# Altium integrated library Resistor - Current Sense.IntLib: 810 symbols (part 6 of 12)
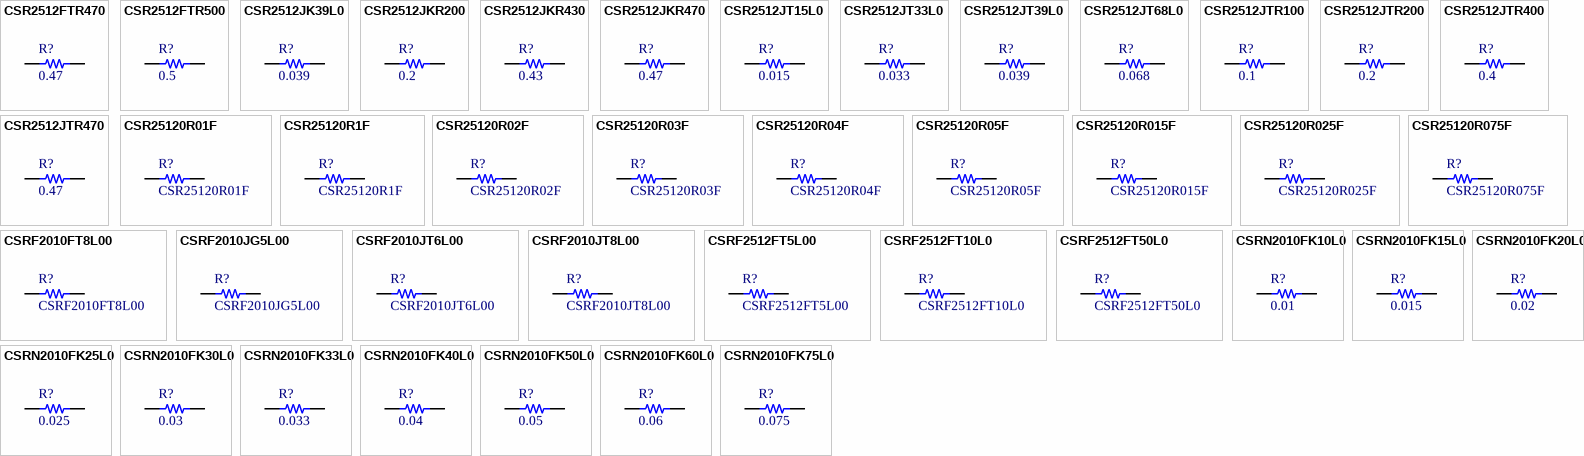
[diagram p25: symbols CSR2512FTR470 to CSRN2010FK75L0]

## CSRN2010FK60L0
designator R?, comment 0.06
RES SMD 0.06 OHM 1% 1W 2010; Part Number: CSRN2010FK60L0; Manufacturer: Stackpole Electronics Inc.; TemperatureRange: -55C ~ 155C; TemperatureCoefficient: 250ppm/C; Value: 0.06; PartId: 10111; Supplier 1: Digi-Key; Supplier Part Number 1: CSRN2010FK60L0TR-ND; ComponentLink1Description: Datasheet; ComponentLink1URL: http://www.seielect.com/catalog/SEI-CSR_CSRN.pdf; ComponentLink2Description: Digi-Key Listing; ComponentLink2URL: https://www.digikey.com/product-detail/en/stackpole-electronics-inc/CSRN2010FK60L0/CSRN2010FK60L0TR-ND/1788102; Tolerance: 1%; PowerRating: 1W; Price: 0.1388; Device Package: 2010 (5025 Metric)
footprint STACKPOLE CSRN2010
pins: 1, 2

## CSRN2010FK75L0
designator R?, comment 0.075
RES SMD 0.075 OHM 1% 1W 2010; Part Number: CSRN2010FK75L0; Manufacturer: Stackpole Electronics Inc.; TemperatureRange: -55C ~ 155C; TemperatureCoefficient: 250ppm/C; Value: 0.075; PartId: 10108; Supplier 1: Digi-Key; Supplier Part Number 1: CSRN2010FK75L0TR-ND; ComponentLink1Description: Datasheet; ComponentLink1URL: http://www.seielect.com/catalog/SEI-CSR_CSRN.pdf; ComponentLink2Description: Digi-Key Listing; ComponentLink2URL: https://www.digikey.com/product-detail/en/stackpole-electronics-inc/CSRN2010FK75L0/CSRN2010FK75L0TR-ND/1646102; Tolerance: 1%; PowerRating: 1W; Price: 0.1388; Device Package: 2010 (5025 Metric)
footprint STACKPOLE CSRN2010
pins: 1, 2

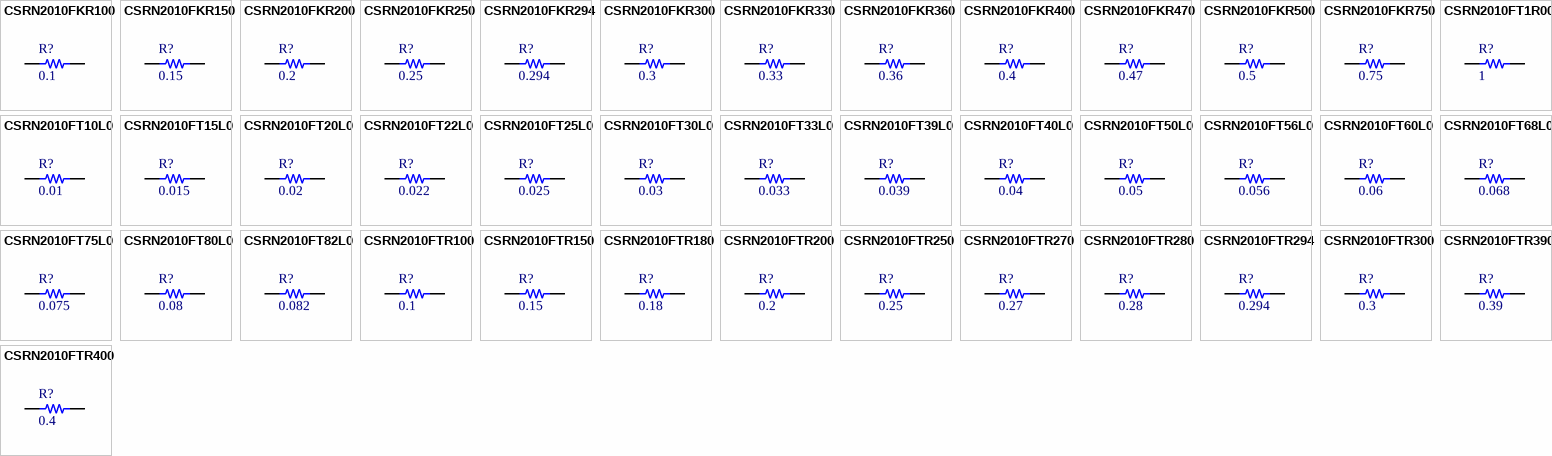
[diagram p9: symbols CSRN2010FKR100 to CSRN2010FTR400]

## CSRN2010FKR100
designator R?, comment 0.1
RES SMD 0.1 OHM 1% 1W 2010; Part Number: CSRN2010FKR100; Manufacturer: Stackpole Electronics Inc.; TemperatureRange: -55C ~ 155C; TemperatureCoefficient: 250ppm/C; Value: 0.1; PartId: 10096; Supplier 1: Digi-Key; Supplier Part Number 1: CSRN2010FKR100TR-ND; ComponentLink1Description: Datasheet; ComponentLink1URL: http://www.seielect.com/catalog/SEI-CSR_CSRN.pdf; ComponentLink2Description: Digi-Key Listing; ComponentLink2URL: https://www.digikey.com/product-detail/en/stackpole-electronics-inc/CSRN2010FKR100/CSRN2010FKR100TR-ND/1646103; Tolerance: 1%; PowerRating: 1W; Price: 0.112; Device Package: 2010 (5025 Metric)
footprint STACKPOLE CSRN2010
pins: 1, 2

## CSRN2010FKR150
designator R?, comment 0.15
RES SMD 0.15 OHM 1% 1W 2010; Part Number: CSRN2010FKR150; Manufacturer: Stackpole Electronics Inc.; TemperatureRange: -55C ~ 155C; TemperatureCoefficient: 250ppm/C; Value: 0.15; PartId: 10098; Supplier 1: Digi-Key; Supplier Part Number 1: CSRN2010FKR150TR-ND; ComponentLink1Description: Datasheet; ComponentLink1URL: http://www.seielect.com/catalog/SEI-CSR_CSRN.pdf; ComponentLink2Description: Digi-Key Listing; ComponentLink2URL: https://www.digikey.com/product-detail/en/stackpole-electronics-inc/CSRN2010FKR150/CSRN2010FKR150TR-ND/1742677; Tolerance: 1%; PowerRating: 1W; Price: 0.112; Device Package: 2010 (5025 Metric)
footprint STACKPOLE CSRN2010
pins: 1, 2

## CSRN2010FKR200
designator R?, comment 0.2
RES SMD 0.2 OHM 1% 1W 2010; Part Number: CSRN2010FKR200; Manufacturer: Stackpole Electronics Inc.; TemperatureRange: -55C ~ 155C; TemperatureCoefficient: 250ppm/C; Value: 0.2; PartId: 10097; Supplier 1: Digi-Key; Supplier Part Number 1: CSRN2010FKR200TR-ND; ComponentLink1Description: Datasheet; ComponentLink1URL: http://www.seielect.com/catalog/SEI-CSR_CSRN.pdf; ComponentLink2Description: Digi-Key Listing; ComponentLink2URL: https://www.digikey.com/product-detail/en/stackpole-electronics-inc/CSRN2010FKR200/CSRN2010FKR200TR-ND/1742682; Tolerance: 1%; PowerRating: 1W; Price: 0.112; Device Package: 2010 (5025 Metric)
footprint STACKPOLE CSRN2010
pins: 1, 2

## CSRN2010FKR250
designator R?, comment 0.25
RES SMD 0.25 OHM 1% 1W 2010; Part Number: CSRN2010FKR250; Manufacturer: Stackpole Electronics Inc.; TemperatureRange: -55C ~ 155C; TemperatureCoefficient: 250ppm/C; Value: 0.25; PartId: 10110; Supplier 1: Digi-Key; Supplier Part Number 1: CSRN2010FKR250TR-ND; ComponentLink1Description: Datasheet; ComponentLink1URL: http://www.seielect.com/catalog/SEI-CSR_CSRN.pdf; ComponentLink2Description: Digi-Key Listing; ComponentLink2URL: https://www.digikey.com/product-detail/en/stackpole-electronics-inc/CSRN2010FKR250/CSRN2010FKR250TR-ND/1788103; Tolerance: 1%; PowerRating: 1W; Price: 0.112; Device Package: 2010 (5025 Metric)
footprint STACKPOLE CSRN2010
pins: 1, 2

## CSRN2010FKR294
designator R?, comment 0.294
RES SMD 0.294 OHM 1% 1W 2010; Part Number: CSRN2010FKR294; Manufacturer: Stackpole Electronics Inc.; TemperatureRange: -55C ~ 155C; TemperatureCoefficient: 250ppm/C; Value: 0.294; PartId: 10138; Supplier 1: Digi-Key; Supplier Part Number 1: CSRN2010FKR294-ND; ComponentLink1Description: Datasheet; ComponentLink1URL: http://www.seielect.com/catalog/SEI-CSR_CSRN.pdf; ComponentLink2Description: Digi-Key Listing; ComponentLink2URL: https://www.digikey.com/product-detail/en/stackpole-electronics-inc/CSRN2010FKR294/CSRN2010FKR294-ND/1742688; Tolerance: 1%; PowerRating: 1W; Price: 0.112; Device Package: 2010 (5025 Metric)
footprint STACKPOLE CSRN2010
pins: 1, 2

## CSRN2010FKR300
designator R?, comment 0.3
RES SMD 0.3 OHM 1% 1W 2010; Part Number: CSRN2010FKR300; Manufacturer: Stackpole Electronics Inc.; TemperatureRange: -55C ~ 155C; TemperatureCoefficient: 250ppm/C; Value: 0.3; PartId: 10095; Supplier 1: Digi-Key; Supplier Part Number 1: CSRN2010FKR300TR-ND; ComponentLink1Description: Datasheet; ComponentLink1URL: http://www.seielect.com/catalog/SEI-CSR_CSRN.pdf; ComponentLink2Description: Digi-Key Listing; ComponentLink2URL: https://www.digikey.com/product-detail/en/stackpole-electronics-inc/CSRN2010FKR300/CSRN2010FKR300TR-ND/1742690; Tolerance: 1%; PowerRating: 1W; Price: 0.112; Device Package: 2010 (5025 Metric)
footprint STACKPOLE CSRN2010
pins: 1, 2

## CSRN2010FKR330
designator R?, comment 0.33
RES SMD 0.33 OHM 1% 1W 2010; Part Number: CSRN2010FKR330; Manufacturer: Stackpole Electronics Inc.; TemperatureRange: -55C ~ 155C; TemperatureCoefficient: 250ppm/C; Value: 0.33; PartId: 10139; Supplier 1: Digi-Key; Supplier Part Number 1: CSRN2010FKR330-ND; ComponentLink1Description: Datasheet; ComponentLink1URL: http://www.seielect.com/catalog/SEI-CSR_CSRN.pdf; ComponentLink2Description: Digi-Key Listing; ComponentLink2URL: https://www.digikey.com/product-detail/en/stackpole-electronics-inc/CSRN2010FKR330/CSRN2010FKR330-ND/1742694; Tolerance: 1%; PowerRating: 1W; Price: 0.112; Device Package: 2010 (5025 Metric)
footprint STACKPOLE CSRN2010
pins: 1, 2

## CSRN2010FKR360
designator R?, comment 0.36
RES SMD 0.36 OHM 1% 1W 2010; Part Number: CSRN2010FKR360; Manufacturer: Stackpole Electronics Inc.; TemperatureRange: -55C ~ 155C; TemperatureCoefficient: 250ppm/C; Value: 0.36; PartId: 10140; Supplier 1: Digi-Key; Supplier Part Number 1: CSRN2010FKR360-ND; ComponentLink1Description: Datasheet; ComponentLink1URL: http://www.seielect.com/catalog/SEI-CSR_CSRN.pdf; ComponentLink2Description: Digi-Key Listing; ComponentLink2URL: https://www.digikey.com/product-detail/en/stackpole-electronics-inc/CSRN2010FKR360/CSRN2010FKR360-ND/1742695; Tolerance: 1%; PowerRating: 1W; Price: 0.112; Device Package: 2010 (5025 Metric)
footprint STACKPOLE CSRN2010
pins: 1, 2

## CSRN2010FKR400
designator R?, comment 0.4
RES SMD 0.4 OHM 1% 1W 2010; Part Number: CSRN2010FKR400; Manufacturer: Stackpole Electronics Inc.; TemperatureRange: -55C ~ 155C; TemperatureCoefficient: 250ppm/C; Value: 0.4; PartId: 10103; Supplier 1: Digi-Key; Supplier Part Number 1: CSRN2010FKR400TR-ND; ComponentLink1Description: Datasheet; ComponentLink1URL: http://www.seielect.com/catalog/SEI-CSR_CSRN.pdf; ComponentLink2Description: Digi-Key Listing; ComponentLink2URL: https://www.digikey.com/product-detail/en/stackpole-electronics-inc/CSRN2010FKR400/CSRN2010FKR400TR-ND/1742697; Tolerance: 1%; PowerRating: 1W; Price: 0.112; Device Package: 2010 (5025 Metric)
footprint STACKPOLE CSRN2010
pins: 1, 2

## CSRN2010FKR470
designator R?, comment 0.47
RES SMD 0.47 OHM 1% 1W 2010; Part Number: CSRN2010FKR470; Manufacturer: Stackpole Electronics Inc.; TemperatureRange: -55C ~ 155C; TemperatureCoefficient: 250ppm/C; Value: 0.47; PartId: 10141; Supplier 1: Digi-Key; Supplier Part Number 1: CSRN2010FKR470-ND; ComponentLink1Description: Datasheet; ComponentLink1URL: http://www.seielect.com/catalog/SEI-CSR_CSRN.pdf; ComponentLink2Description: Digi-Key Listing; ComponentLink2URL: https://www.digikey.com/product-detail/en/stackpole-electronics-inc/CSRN2010FKR470/CSRN2010FKR470-ND/1742700; Tolerance: 1%; PowerRating: 1W; Price: 0.112; Device Package: 2010 (5025 Metric)
footprint STACKPOLE CSRN2010
pins: 1, 2

## CSRN2010FKR500
designator R?, comment 0.5
RES SMD 0.5 OHM 1% 1W 2010; Part Number: CSRN2010FKR500; Manufacturer: Stackpole Electronics Inc.; TemperatureRange: -55C ~ 155C; TemperatureCoefficient: 250ppm/C; Value: 0.5; PartId: 10094; Supplier 1: Digi-Key; Supplier Part Number 1: CSRN2010FKR500TR-ND; ComponentLink1Description: Datasheet; ComponentLink1URL: http://www.seielect.com/catalog/SEI-CSR_CSRN.pdf; ComponentLink2Description: Digi-Key Listing; ComponentLink2URL: https://www.digikey.com/product-detail/en/stackpole-electronics-inc/CSRN2010FKR500/CSRN2010FKR500TR-ND/1742702; Tolerance: 1%; PowerRating: 1W; Price: 0.104; Device Package: 2010 (5025 Metric)
footprint STACKPOLE CSRN2010
pins: 1, 2

## CSRN2010FKR750
designator R?, comment 0.75
RES SMD 0.75 OHM 1% 1W 2010; Part Number: CSRN2010FKR750; Manufacturer: Stackpole Electronics Inc.; TemperatureRange: -55C ~ 155C; TemperatureCoefficient: 250ppm/C; Value: 0.75; PartId: 10102; Supplier 1: Digi-Key; Supplier Part Number 1: CSRN2010FKR750TR-ND; ComponentLink1Description: Datasheet; ComponentLink1URL: http://www.seielect.com/catalog/SEI-CSR_CSRN.pdf; ComponentLink2Description: Digi-Key Listing; ComponentLink2URL: https://www.digikey.com/product-detail/en/stackpole-electronics-inc/CSRN2010FKR750/CSRN2010FKR750TR-ND/1788104; Tolerance: 1%; PowerRating: 1W; Price: 0.104; Device Package: 2010 (5025 Metric)
footprint STACKPOLE CSRN2010
pins: 1, 2

## CSRN2010FT1R00
designator R?, comment 1
RES SMD 1 OHM 1% 1W 2010; Part Number: CSRN2010FT1R00; Manufacturer: Stackpole Electronics Inc.; TemperatureRange: -55C ~ 155C; TemperatureCoefficient: 250ppm/C; Value: 1; PartId: 10126; Supplier 1: Digi-Key; Supplier Part Number 1: CSRN2010FT1R00-ND; ComponentLink1Description: Datasheet; ComponentLink1URL: http://www.seielect.com/catalog/SEI-CSR_CSRN.pdf; ComponentLink2Description: Digi-Key Listing; ComponentLink2URL: https://www.digikey.com/product-detail/en/stackpole-electronics-inc/CSRN2010FT1R00/CSRN2010FT1R00-ND/1742710; Tolerance: 1%; PowerRating: 1W; Price: 0.0975; Device Package: 2010 (5025 Metric)
footprint STACKPOLE CSRN2010
pins: 1, 2

## CSRN2010FT10L0
designator R?, comment 0.01
RES SMD 0.01 OHM 1% 1W 2010; Part Number: CSRN2010FT10L0; Manufacturer: Stackpole Electronics Inc.; TemperatureRange: -55C ~ 155C; TemperatureCoefficient: 250ppm/C; Value: 0.01; PartId: 10109; Supplier 1: Digi-Key; Supplier Part Number 1: CSRN2010FT10L0TR-ND; ComponentLink1Description: Datasheet; ComponentLink1URL: http://www.seielect.com/catalog/SEI-CSR_CSRN.pdf; ComponentLink2Description: Digi-Key Listing; ComponentLink2URL: https://www.digikey.com/product-detail/en/stackpole-electronics-inc/CSRN2010FT10L0/CSRN2010FT10L0TR-ND/1742654; Tolerance: 1%; PowerRating: 1W; Price: 0.1608; Device Package: 2010 (5025 Metric)
footprint STACKPOLE CSRN2010
pins: 1, 2

## CSRN2010FT15L0
designator R?, comment 0.015
RES SMD 0.015 OHM 1% 1W 2010; Part Number: CSRN2010FT15L0; Manufacturer: Stackpole Electronics Inc.; TemperatureRange: -55C ~ 155C; TemperatureCoefficient: 250ppm/C; Value: 0.015; PartId: 10160; Supplier 1: Digi-Key; Supplier Part Number 1: CSRN2010FT15L0-ND; ComponentLink1Description: Datasheet; ComponentLink1URL: http://www.seielect.com/catalog/SEI-CSR_CSRN.pdf; ComponentLink2Description: Digi-Key Listing; ComponentLink2URL: https://www.digikey.com/product-detail/en/stackpole-electronics-inc/CSRN2010FT15L0/CSRN2010FT15L0-ND/1742656; Tolerance: 1%; PowerRating: 1W; Price: 0.1608; Device Package: 2010 (5025 Metric)
footprint STACKPOLE CSRN2010
pins: 1, 2

## CSRN2010FT20L0
designator R?, comment 0.02
RES SMD 0.02 OHM 1% 1W 2010; Part Number: CSRN2010FT20L0; Manufacturer: Stackpole Electronics Inc.; TemperatureRange: -55C ~ 155C; TemperatureCoefficient: 250ppm/C; Value: 0.02; PartId: 10161; Supplier 1: Digi-Key; Supplier Part Number 1: CSRN2010FT20L0-ND; ComponentLink1Description: Datasheet; ComponentLink1URL: http://www.seielect.com/catalog/SEI-CSR_CSRN.pdf; ComponentLink2Description: Digi-Key Listing; ComponentLink2URL: https://www.digikey.com/product-detail/en/stackpole-electronics-inc/CSRN2010FT20L0/CSRN2010FT20L0-ND/1742657; Tolerance: 1%; PowerRating: 1W; Price: 0.1608; Device Package: 2010 (5025 Metric)
footprint STACKPOLE CSRN2010
pins: 1, 2

## CSRN2010FT22L0
designator R?, comment 0.022
RES SMD 0.022 OHM 1% 1W 2010; Part Number: CSRN2010FT22L0; Manufacturer: Stackpole Electronics Inc.; TemperatureRange: -55C ~ 155C; TemperatureCoefficient: 250ppm/C; Value: 0.022; PartId: 10151; Supplier 1: Digi-Key; Supplier Part Number 1: CSRN2010FT22L0-ND; ComponentLink1Description: Datasheet; ComponentLink1URL: http://www.seielect.com/catalog/SEI-CSR_CSRN.pdf; ComponentLink2Description: Digi-Key Listing; ComponentLink2URL: https://www.digikey.com/product-detail/en/stackpole-electronics-inc/CSRN2010FT22L0/CSRN2010FT22L0-ND/1742658; Tolerance: 1%; PowerRating: 1W; Price: 0.1474; Device Package: 2010 (5025 Metric)
footprint STACKPOLE CSRN2010
pins: 1, 2

## CSRN2010FT25L0
designator R?, comment 0.025
RES SMD 0.025 OHM 1% 1W 2010; Part Number: CSRN2010FT25L0; Manufacturer: Stackpole Electronics Inc.; TemperatureRange: -55C ~ 155C; TemperatureCoefficient: 250ppm/C; Value: 0.025; PartId: 10152; Supplier 1: Digi-Key; Supplier Part Number 1: CSRN2010FT25L0-ND; ComponentLink1Description: Datasheet; ComponentLink1URL: http://www.seielect.com/catalog/SEI-CSR_CSRN.pdf; ComponentLink2Description: Digi-Key Listing; ComponentLink2URL: https://www.digikey.com/product-detail/en/stackpole-electronics-inc/CSRN2010FT25L0/CSRN2010FT25L0-ND/1742659; Tolerance: 1%; PowerRating: 1W; Price: 0.1474; Device Package: 2010 (5025 Metric)
footprint STACKPOLE CSRN2010
pins: 1, 2

## CSRN2010FT30L0
designator R?, comment 0.03
RES SMD 0.03 OHM 1% 1W 2010; Part Number: CSRN2010FT30L0; Manufacturer: Stackpole Electronics Inc.; TemperatureRange: -55C ~ 155C; TemperatureCoefficient: 250ppm/C; Value: 0.03; PartId: 10153; Supplier 1: Digi-Key; Supplier Part Number 1: CSRN2010FT30L0-ND; ComponentLink1Description: Datasheet; ComponentLink1URL: http://www.seielect.com/catalog/SEI-CSR_CSRN.pdf; ComponentLink2Description: Digi-Key Listing; ComponentLink2URL: https://www.digikey.com/product-detail/en/stackpole-electronics-inc/CSRN2010FT30L0/CSRN2010FT30L0-ND/1742661; Tolerance: 1%; PowerRating: 1W; Price: 0.1474; Device Package: 2010 (5025 Metric)
footprint STACKPOLE CSRN2010
pins: 1, 2

## CSRN2010FT33L0
designator R?, comment 0.033
RES SMD 0.033 OHM 1% 1W 2010; Part Number: CSRN2010FT33L0; Manufacturer: Stackpole Electronics Inc.; TemperatureRange: -55C ~ 155C; TemperatureCoefficient: 250ppm/C; Value: 0.033; PartId: 10157; Supplier 1: Digi-Key; Supplier Part Number 1: CSRN2010FT33L0TR-ND; ComponentLink1Description: Datasheet; ComponentLink1URL: http://www.seielect.com/catalog/SEI-CSR_CSRN.pdf; ComponentLink2Description: Digi-Key Listing; ComponentLink2URL: https://www.digikey.com/product-detail/en/stackpole-electronics-inc/CSRN2010FT33L0/CSRN2010FT33L0TR-ND/1742663; Tolerance: 1%; PowerRating: 1W; Price: 0.1474; Device Package: 2010 (5025 Metric)
footprint STACKPOLE CSRN2010
pins: 1, 2

## CSRN2010FT39L0
designator R?, comment 0.039
RES SMD 0.039 OHM 1% 1W 2010; Part Number: CSRN2010FT39L0; Manufacturer: Stackpole Electronics Inc.; TemperatureRange: -55C ~ 155C; TemperatureCoefficient: 250ppm/C; Value: 0.039; PartId: 10154; Supplier 1: Digi-Key; Supplier Part Number 1: CSRN2010FT39L0-ND; ComponentLink1Description: Datasheet; ComponentLink1URL: http://www.seielect.com/catalog/SEI-CSR_CSRN.pdf; ComponentLink2Description: Digi-Key Listing; ComponentLink2URL: https://www.digikey.com/product-detail/en/stackpole-electronics-inc/CSRN2010FT39L0/CSRN2010FT39L0-ND/1742665; Tolerance: 1%; PowerRating: 1W; Price: 0.1474; Device Package: 2010 (5025 Metric)
footprint STACKPOLE CSRN2010
pins: 1, 2

## CSRN2010FT40L0
designator R?, comment 0.04
RES SMD 0.04 OHM 1% 1W 2010; Part Number: CSRN2010FT40L0; Manufacturer: Stackpole Electronics Inc.; TemperatureRange: -55C ~ 155C; TemperatureCoefficient: 250ppm/C; Value: 0.04; PartId: 10155; Supplier 1: Digi-Key; Supplier Part Number 1: CSRN2010FT40L0-ND; ComponentLink1Description: Datasheet; ComponentLink1URL: http://www.seielect.com/catalog/SEI-CSR_CSRN.pdf; ComponentLink2Description: Digi-Key Listing; ComponentLink2URL: https://www.digikey.com/product-detail/en/stackpole-electronics-inc/CSRN2010FT40L0/CSRN2010FT40L0-ND/1742666; Tolerance: 1%; PowerRating: 1W; Price: 0.1474; Device Package: 2010 (5025 Metric)
footprint STACKPOLE CSRN2010
pins: 1, 2

## CSRN2010FT50L0
designator R?, comment 0.05
RES SMD 0.05 OHM 1% 1W 2010; Part Number: CSRN2010FT50L0; Manufacturer: Stackpole Electronics Inc.; TemperatureRange: -55C ~ 155C; TemperatureCoefficient: 250ppm/C; Value: 0.05; PartId: 10156; Supplier 1: Digi-Key; Supplier Part Number 1: CSRN2010FT50L0-ND; ComponentLink1Description: Datasheet; ComponentLink1URL: http://www.seielect.com/catalog/SEI-CSR_CSRN.pdf; ComponentLink2Description: Digi-Key Listing; ComponentLink2URL: https://www.digikey.com/product-detail/en/stackpole-electronics-inc/CSRN2010FT50L0/CSRN2010FT50L0-ND/1742667; Tolerance: 1%; PowerRating: 1W; Price: 0.1474; Device Package: 2010 (5025 Metric)
footprint STACKPOLE CSRN2010
pins: 1, 2

## CSRN2010FT56L0
designator R?, comment 0.056
RES SMD 0.056 OHM 1% 1W 2010; Part Number: CSRN2010FT56L0; Manufacturer: Stackpole Electronics Inc.; TemperatureRange: -55C ~ 155C; TemperatureCoefficient: 250ppm/C; Value: 0.056; PartId: 10144; Supplier 1: Digi-Key; Supplier Part Number 1: CSRN2010FT56L0-ND; ComponentLink1Description: Datasheet; ComponentLink1URL: http://www.seielect.com/catalog/SEI-CSR_CSRN.pdf; ComponentLink2Description: Digi-Key Listing; ComponentLink2URL: https://www.digikey.com/product-detail/en/stackpole-electronics-inc/CSRN2010FT56L0/CSRN2010FT56L0-ND/1742669; Tolerance: 1%; PowerRating: 1W; Price: 0.134; Device Package: 2010 (5025 Metric)
footprint STACKPOLE CSRN2010
pins: 1, 2

## CSRN2010FT60L0
designator R?, comment 0.06
RES SMD 0.06 OHM 1% 1W 2010; Part Number: CSRN2010FT60L0; Manufacturer: Stackpole Electronics Inc.; TemperatureRange: -55C ~ 155C; TemperatureCoefficient: 250ppm/C; Value: 0.06; PartId: 10145; Supplier 1: Digi-Key; Supplier Part Number 1: CSRN2010FT60L0-ND; ComponentLink1Description: Datasheet; ComponentLink1URL: http://www.seielect.com/catalog/SEI-CSR_CSRN.pdf; ComponentLink2Description: Digi-Key Listing; ComponentLink2URL: https://www.digikey.com/product-detail/en/stackpole-electronics-inc/CSRN2010FT60L0/CSRN2010FT60L0-ND/1742670; Tolerance: 1%; PowerRating: 1W; Price: 0.134; Device Package: 2010 (5025 Metric)
footprint STACKPOLE CSRN2010
pins: 1, 2

## CSRN2010FT68L0
designator R?, comment 0.068
RES SMD 0.068 OHM 1% 1W 2010; Part Number: CSRN2010FT68L0; Manufacturer: Stackpole Electronics Inc.; TemperatureRange: -55C ~ 155C; TemperatureCoefficient: 250ppm/C; Value: 0.068; PartId: 10146; Supplier 1: Digi-Key; Supplier Part Number 1: CSRN2010FT68L0-ND; ComponentLink1Description: Datasheet; ComponentLink1URL: http://www.seielect.com/catalog/SEI-CSR_CSRN.pdf; ComponentLink2Description: Digi-Key Listing; ComponentLink2URL: https://www.digikey.com/product-detail/en/stackpole-electronics-inc/CSRN2010FT68L0/CSRN2010FT68L0-ND/1742671; Tolerance: 1%; PowerRating: 1W; Price: 0.134; Device Package: 2010 (5025 Metric)
footprint STACKPOLE CSRN2010
pins: 1, 2

## CSRN2010FT75L0
designator R?, comment 0.075
RES SMD 0.075 OHM 1% 1W 2010; Part Number: CSRN2010FT75L0; Manufacturer: Stackpole Electronics Inc.; TemperatureRange: -55C ~ 155C; TemperatureCoefficient: 250ppm/C; Value: 0.075; PartId: 10147; Supplier 1: Digi-Key; Supplier Part Number 1: CSRN2010FT75L0-ND; ComponentLink1Description: Datasheet; ComponentLink1URL: http://www.seielect.com/catalog/SEI-CSR_CSRN.pdf; ComponentLink2Description: Digi-Key Listing; ComponentLink2URL: https://www.digikey.com/product-detail/en/stackpole-electronics-inc/CSRN2010FT75L0/CSRN2010FT75L0-ND/1742672; Tolerance: 1%; PowerRating: 1W; Price: 0.134; Device Package: 2010 (5025 Metric)
footprint STACKPOLE CSRN2010
pins: 1, 2

## CSRN2010FT80L0
designator R?, comment 0.08
RES SMD 0.08 OHM 1% 1W 2010; Part Number: CSRN2010FT80L0; Manufacturer: Stackpole Electronics Inc.; TemperatureRange: -55C ~ 155C; TemperatureCoefficient: 250ppm/C; Value: 0.08; PartId: 10148; Supplier 1: Digi-Key; Supplier Part Number 1: CSRN2010FT80L0-ND; ComponentLink1Description: Datasheet; ComponentLink1URL: http://www.seielect.com/catalog/SEI-CSR_CSRN.pdf; ComponentLink2Description: Digi-Key Listing; ComponentLink2URL: https://www.digikey.com/product-detail/en/stackpole-electronics-inc/CSRN2010FT80L0/CSRN2010FT80L0-ND/1742673; Tolerance: 1%; PowerRating: 1W; Price: 0.134; Device Package: 2010 (5025 Metric)
footprint STACKPOLE CSRN2010
pins: 1, 2

## CSRN2010FT82L0
designator R?, comment 0.082
RES SMD 0.082 OHM 1% 1W 2010; Part Number: CSRN2010FT82L0; Manufacturer: Stackpole Electronics Inc.; TemperatureRange: -55C ~ 155C; TemperatureCoefficient: 250ppm/C; Value: 0.082; PartId: 10149; Supplier 1: Digi-Key; Supplier Part Number 1: CSRN2010FT82L0-ND; ComponentLink1Description: Datasheet; ComponentLink1URL: http://www.seielect.com/catalog/SEI-CSR_CSRN.pdf; ComponentLink2Description: Digi-Key Listing; ComponentLink2URL: https://www.digikey.com/product-detail/en/stackpole-electronics-inc/CSRN2010FT82L0/CSRN2010FT82L0-ND/1742674; Tolerance: 1%; PowerRating: 1W; Price: 0.134; Device Package: 2010 (5025 Metric)
footprint STACKPOLE CSRN2010
pins: 1, 2

## CSRN2010FTR100
designator R?, comment 0.1
RES SMD 0.1 OHM 1% 1W 2010; Part Number: CSRN2010FTR100; Manufacturer: Stackpole Electronics Inc.; TemperatureRange: -55C ~ 155C; TemperatureCoefficient: 250ppm/C; Value: 0.1; PartId: 10150; Supplier 1: Digi-Key; Supplier Part Number 1: CSRN2010FTR100-ND; ComponentLink1Description: Datasheet; ComponentLink1URL: http://www.seielect.com/catalog/SEI-CSR_CSRN.pdf; ComponentLink2Description: Digi-Key Listing; ComponentLink2URL: https://www.digikey.com/product-detail/en/stackpole-electronics-inc/CSRN2010FTR100/CSRN2010FTR100-ND/1742675; Tolerance: 1%; PowerRating: 1W; Price: 0.134; Device Package: 2010 (5025 Metric)
footprint STACKPOLE CSRN2010
pins: 1, 2

## CSRN2010FTR150
designator R?, comment 0.15
RES SMD 0.15 OHM 1% 1W 2010; Part Number: CSRN2010FTR150; Manufacturer: Stackpole Electronics Inc.; TemperatureRange: -55C ~ 155C; TemperatureCoefficient: 250ppm/C; Value: 0.15; PartId: 10128; Supplier 1: Digi-Key; Supplier Part Number 1: CSRN2010FTR150-ND; ComponentLink1Description: Datasheet; ComponentLink1URL: http://www.seielect.com/catalog/SEI-CSR_CSRN.pdf; ComponentLink2Description: Digi-Key Listing; ComponentLink2URL: https://www.digikey.com/product-detail/en/stackpole-electronics-inc/CSRN2010FTR150/CSRN2010FTR150-ND/1742678; Tolerance: 1%; PowerRating: 1W; Price: 0.108; Device Package: 2010 (5025 Metric)
footprint STACKPOLE CSRN2010
pins: 1, 2

## CSRN2010FTR180
designator R?, comment 0.18
RES SMD 0.18 OHM 1% 1W 2010; Part Number: CSRN2010FTR180; Manufacturer: Stackpole Electronics Inc.; TemperatureRange: -55C ~ 155C; TemperatureCoefficient: 250ppm/C; Value: 0.18; PartId: 10129; Supplier 1: Digi-Key; Supplier Part Number 1: CSRN2010FTR180-ND; ComponentLink1Description: Datasheet; ComponentLink1URL: http://www.seielect.com/catalog/SEI-CSR_CSRN.pdf; ComponentLink2Description: Digi-Key Listing; ComponentLink2URL: https://www.digikey.com/product-detail/en/stackpole-electronics-inc/CSRN2010FTR180/CSRN2010FTR180-ND/1742681; Tolerance: 1%; PowerRating: 1W; Price: 0.108; Device Package: 2010 (5025 Metric)
footprint STACKPOLE CSRN2010
pins: 1, 2

## CSRN2010FTR200
designator R?, comment 0.2
RES SMD 0.2 OHM 1% 1W 2010; Part Number: CSRN2010FTR200; Manufacturer: Stackpole Electronics Inc.; TemperatureRange: -55C ~ 155C; TemperatureCoefficient: 250ppm/C; Value: 0.2; PartId: 10130; Supplier 1: Digi-Key; Supplier Part Number 1: CSRN2010FTR200-ND; ComponentLink1Description: Datasheet; ComponentLink1URL: http://www.seielect.com/catalog/SEI-CSR_CSRN.pdf; ComponentLink2Description: Digi-Key Listing; ComponentLink2URL: https://www.digikey.com/product-detail/en/stackpole-electronics-inc/CSRN2010FTR200/CSRN2010FTR200-ND/1742683; Tolerance: 1%; PowerRating: 1W; Price: 0.108; Device Package: 2010 (5025 Metric)
footprint STACKPOLE CSRN2010
pins: 1, 2

## CSRN2010FTR250
designator R?, comment 0.25
RES SMD 0.25 OHM 1% 1W 2010; Part Number: CSRN2010FTR250; Manufacturer: Stackpole Electronics Inc.; TemperatureRange: -55C ~ 155C; TemperatureCoefficient: 250ppm/C; Value: 0.25; PartId: 10131; Supplier 1: Digi-Key; Supplier Part Number 1: CSRN2010FTR250-ND; ComponentLink1Description: Datasheet; ComponentLink1URL: http://www.seielect.com/catalog/SEI-CSR_CSRN.pdf; ComponentLink2Description: Digi-Key Listing; ComponentLink2URL: https://www.digikey.com/product-detail/en/stackpole-electronics-inc/CSRN2010FTR250/CSRN2010FTR250-ND/1742685; Tolerance: 1%; PowerRating: 1W; Price: 0.108; Device Package: 2010 (5025 Metric)
footprint STACKPOLE CSRN2010
pins: 1, 2

## CSRN2010FTR270
designator R?, comment 0.27
RES SMD 0.27 OHM 1% 1W 2010; Part Number: CSRN2010FTR270; Manufacturer: Stackpole Electronics Inc.; TemperatureRange: -55C ~ 155C; TemperatureCoefficient: 250ppm/C; Value: 0.27; PartId: 10132; Supplier 1: Digi-Key; Supplier Part Number 1: CSRN2010FTR270-ND; ComponentLink1Description: Datasheet; ComponentLink1URL: http://www.seielect.com/catalog/SEI-CSR_CSRN.pdf; ComponentLink2Description: Digi-Key Listing; ComponentLink2URL: https://www.digikey.com/product-detail/en/stackpole-electronics-inc/CSRN2010FTR270/CSRN2010FTR270-ND/1742686; Tolerance: 1%; PowerRating: 1W; Price: 0.108; Device Package: 2010 (5025 Metric)
footprint STACKPOLE CSRN2010
pins: 1, 2

## CSRN2010FTR280
designator R?, comment 0.28
RES SMD 0.28 OHM 1% 1W 2010; Part Number: CSRN2010FTR280; Manufacturer: Stackpole Electronics Inc.; TemperatureRange: -55C ~ 155C; TemperatureCoefficient: 250ppm/C; Value: 0.28; PartId: 10133; Supplier 1: Digi-Key; Supplier Part Number 1: CSRN2010FTR280-ND; ComponentLink1Description: Datasheet; ComponentLink1URL: http://www.seielect.com/catalog/SEI-CSR_CSRN.pdf; ComponentLink2Description: Digi-Key Listing; ComponentLink2URL: https://www.digikey.com/product-detail/en/stackpole-electronics-inc/CSRN2010FTR280/CSRN2010FTR280-ND/1742687; Tolerance: 1%; PowerRating: 1W; Price: 0.108; Device Package: 2010 (5025 Metric)
footprint STACKPOLE CSRN2010
pins: 1, 2

## CSRN2010FTR294
designator R?, comment 0.294
RES SMD 0.294 OHM 1% 1W 2010; Part Number: CSRN2010FTR294; Manufacturer: Stackpole Electronics Inc.; TemperatureRange: -55C ~ 155C; TemperatureCoefficient: 250ppm/C; Value: 0.294; PartId: 10134; Supplier 1: Digi-Key; Supplier Part Number 1: CSRN2010FTR294-ND; ComponentLink1Description: Datasheet; ComponentLink1URL: http://www.seielect.com/catalog/SEI-CSR_CSRN.pdf; ComponentLink2Description: Digi-Key Listing; ComponentLink2URL: https://www.digikey.com/product-detail/en/stackpole-electronics-inc/CSRN2010FTR294/CSRN2010FTR294-ND/1742689; Tolerance: 1%; PowerRating: 1W; Price: 0.108; Device Package: 2010 (5025 Metric)
footprint STACKPOLE CSRN2010
pins: 1, 2

## CSRN2010FTR300
designator R?, comment 0.3
RES SMD 0.3 OHM 1% 1W 2010; Part Number: CSRN2010FTR300; Manufacturer: Stackpole Electronics Inc.; TemperatureRange: -55C ~ 155C; TemperatureCoefficient: 250ppm/C; Value: 0.3; PartId: 10135; Supplier 1: Digi-Key; Supplier Part Number 1: CSRN2010FTR300-ND; ComponentLink1Description: Datasheet; ComponentLink1URL: http://www.seielect.com/catalog/SEI-CSR_CSRN.pdf; ComponentLink2Description: Digi-Key Listing; ComponentLink2URL: https://www.digikey.com/product-detail/en/stackpole-electronics-inc/CSRN2010FTR300/CSRN2010FTR300-ND/1742691; Tolerance: 1%; PowerRating: 1W; Price: 0.108; Device Package: 2010 (5025 Metric)
footprint STACKPOLE CSRN2010
pins: 1, 2

## CSRN2010FTR390
designator R?, comment 0.39
RES SMD 0.39 OHM 1% 1W 2010; Part Number: CSRN2010FTR390; Manufacturer: Stackpole Electronics Inc.; TemperatureRange: -55C ~ 155C; TemperatureCoefficient: 250ppm/C; Value: 0.39; PartId: 10136; Supplier 1: Digi-Key; Supplier Part Number 1: CSRN2010FTR390-ND; ComponentLink1Description: Datasheet; ComponentLink1URL: http://www.seielect.com/catalog/SEI-CSR_CSRN.pdf; ComponentLink2Description: Digi-Key Listing; ComponentLink2URL: https://www.digikey.com/product-detail/en/stackpole-electronics-inc/CSRN2010FTR390/CSRN2010FTR390-ND/1742696; Tolerance: 1%; PowerRating: 1W; Price: 0.108; Device Package: 2010 (5025 Metric)
footprint STACKPOLE CSRN2010
pins: 1, 2

## CSRN2010FTR400
designator R?, comment 0.4
RES SMD 0.4 OHM 1% 1W 2010; Part Number: CSRN2010FTR400; Manufacturer: Stackpole Electronics Inc.; TemperatureRange: -55C ~ 155C; TemperatureCoefficient: 250ppm/C; Value: 0.4; PartId: 10137; Supplier 1: Digi-Key; Supplier Part Number 1: CSRN2010FTR400-ND; ComponentLink1Description: Datasheet; ComponentLink1URL: http://www.seielect.com/catalog/SEI-CSR_CSRN.pdf; ComponentLink2Description: Digi-Key Listing; ComponentLink2URL: https://www.digikey.com/product-detail/en/stackpole-electronics-inc/CSRN2010FTR400/CSRN2010FTR400-ND/1742698; Tolerance: 1%; PowerRating: 1W; Price: 0.108; Device Package: 2010 (5025 Metric)
footprint STACKPOLE CSRN2010
pins: 1, 2

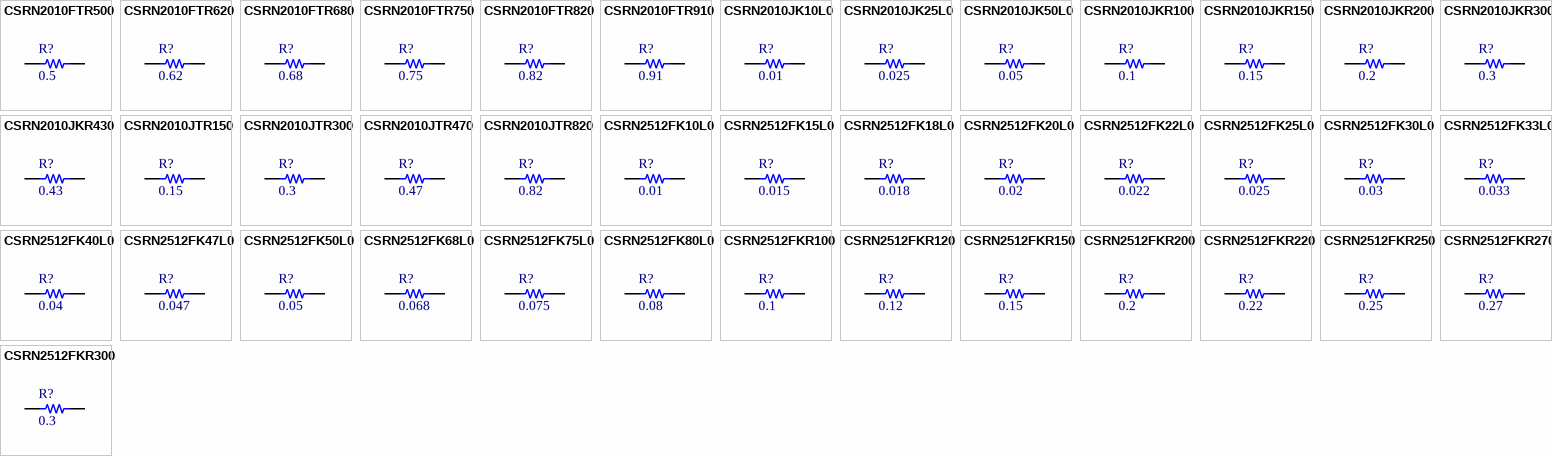
[diagram p10: symbols CSRN2010FTR500 to CSRN2512FKR300]

## CSRN2010FTR500
designator R?, comment 0.5
RES SMD 0.5 OHM 1% 1W 2010; Part Number: CSRN2010FTR500; Manufacturer: Stackpole Electronics Inc.; TemperatureRange: -55C ~ 155C; TemperatureCoefficient: 250ppm/C; Value: 0.5; PartId: 10120; Supplier 1: Digi-Key; Supplier Part Number 1: CSRN2010FTR500-ND; ComponentLink1Description: Datasheet; ComponentLink1URL: http://www.seielect.com/catalog/SEI-CSR_CSRN.pdf; ComponentLink2Description: Digi-Key Listing; ComponentLink2URL: https://www.digikey.com/product-detail/en/stackpole-electronics-inc/CSRN2010FTR500/CSRN2010FTR500-ND/1742703; Tolerance: 1%; PowerRating: 1W; Price: 0.0975; Device Package: 2010 (5025 Metric)
footprint STACKPOLE CSRN2010
pins: 1, 2

## CSRN2010FTR620
designator R?, comment 0.62
RES SMD 0.62 OHM 1% 1W 2010; Part Number: CSRN2010FTR620; Manufacturer: Stackpole Electronics Inc.; TemperatureRange: -55C ~ 155C; TemperatureCoefficient: 250ppm/C; Value: 0.62; PartId: 10121; Supplier 1: Digi-Key; Supplier Part Number 1: CSRN2010FTR620-ND; ComponentLink1Description: Datasheet; ComponentLink1URL: http://www.seielect.com/catalog/SEI-CSR_CSRN.pdf; ComponentLink2Description: Digi-Key Listing; ComponentLink2URL: https://www.digikey.com/product-detail/en/stackpole-electronics-inc/CSRN2010FTR620/CSRN2010FTR620-ND/1742704; Tolerance: 1%; PowerRating: 1W; Price: 0.0975; Device Package: 2010 (5025 Metric)
footprint STACKPOLE CSRN2010
pins: 1, 2

## CSRN2010FTR680
designator R?, comment 0.68
RES SMD 0.68 OHM 1% 1W 2010; Part Number: CSRN2010FTR680; Manufacturer: Stackpole Electronics Inc.; TemperatureRange: -55C ~ 155C; TemperatureCoefficient: 250ppm/C; Value: 0.68; PartId: 10122; Supplier 1: Digi-Key; Supplier Part Number 1: CSRN2010FTR680-ND; ComponentLink1Description: Datasheet; ComponentLink1URL: http://www.seielect.com/catalog/SEI-CSR_CSRN.pdf; ComponentLink2Description: Digi-Key Listing; ComponentLink2URL: https://www.digikey.com/product-detail/en/stackpole-electronics-inc/CSRN2010FTR680/CSRN2010FTR680-ND/1742705; Tolerance: 1%; PowerRating: 1W; Price: 0.0975; Device Package: 2010 (5025 Metric)
footprint STACKPOLE CSRN2010
pins: 1, 2

## CSRN2010FTR750
designator R?, comment 0.75
RES SMD 0.75 OHM 1% 1W 2010; Part Number: CSRN2010FTR750; Manufacturer: Stackpole Electronics Inc.; TemperatureRange: -55C ~ 155C; TemperatureCoefficient: 250ppm/C; Value: 0.75; PartId: 10123; Supplier 1: Digi-Key; Supplier Part Number 1: CSRN2010FTR750-ND; ComponentLink1Description: Datasheet; ComponentLink1URL: http://www.seielect.com/catalog/SEI-CSR_CSRN.pdf; ComponentLink2Description: Digi-Key Listing; ComponentLink2URL: https://www.digikey.com/product-detail/en/stackpole-electronics-inc/CSRN2010FTR750/CSRN2010FTR750-ND/1742706; Tolerance: 1%; PowerRating: 1W; Price: 0.0975; Device Package: 2010 (5025 Metric)
footprint STACKPOLE CSRN2010
pins: 1, 2

## CSRN2010FTR820
designator R?, comment 0.82
RES SMD 0.82 OHM 1% 1W 2010; Part Number: CSRN2010FTR820; Manufacturer: Stackpole Electronics Inc.; TemperatureRange: -55C ~ 155C; TemperatureCoefficient: 250ppm/C; Value: 0.82; PartId: 10124; Supplier 1: Digi-Key; Supplier Part Number 1: CSRN2010FTR820-ND; ComponentLink1Description: Datasheet; ComponentLink1URL: http://www.seielect.com/catalog/SEI-CSR_CSRN.pdf; ComponentLink2Description: Digi-Key Listing; ComponentLink2URL: https://www.digikey.com/product-detail/en/stackpole-electronics-inc/CSRN2010FTR820/CSRN2010FTR820-ND/1742707; Tolerance: 1%; PowerRating: 1W; Price: 0.0975; Device Package: 2010 (5025 Metric)
footprint STACKPOLE CSRN2010
pins: 1, 2

## CSRN2010FTR910
designator R?, comment 0.91
RES SMD 0.91 OHM 1% 1W 2010; Part Number: CSRN2010FTR910; Manufacturer: Stackpole Electronics Inc.; TemperatureRange: -55C ~ 155C; TemperatureCoefficient: 250ppm/C; Value: 0.91; PartId: 10125; Supplier 1: Digi-Key; Supplier Part Number 1: CSRN2010FTR910-ND; ComponentLink1Description: Datasheet; ComponentLink1URL: http://www.seielect.com/catalog/SEI-CSR_CSRN.pdf; ComponentLink2Description: Digi-Key Listing; ComponentLink2URL: https://www.digikey.com/product-detail/en/stackpole-electronics-inc/CSRN2010FTR910/CSRN2010FTR910-ND/1742709; Tolerance: 1%; PowerRating: 1W; Price: 0.0975; Device Package: 2010 (5025 Metric)
footprint STACKPOLE CSRN2010
pins: 1, 2

## CSRN2010JK10L0
designator R?, comment 0.01
RES SMD 0.01 OHM 5% 1W 2010; Part Number: CSRN2010JK10L0; Manufacturer: Stackpole Electronics Inc.; TemperatureRange: -55C ~ 155C; TemperatureCoefficient: 250ppm/C; Value: 0.01; PartId: 10158; Supplier 1: Digi-Key; Supplier Part Number 1: CSRN2010JK10L0-ND; ComponentLink1Description: Datasheet; ComponentLink1URL: http://www.seielect.com/catalog/SEI-CSR_CSRN.pdf; ComponentLink2Description: Digi-Key Listing; ComponentLink2URL: https://www.digikey.com/product-detail/en/stackpole-electronics-inc/CSRN2010JK10L0/CSRN2010JK10L0-ND/1742655; Tolerance: 5%; PowerRating: 1W; Price: 0.1526; Device Package: 2010 (5025 Metric)
footprint STACKPOLE CSRN2010
pins: 1, 2

## CSRN2010JK25L0
designator R?, comment 0.025
RES SMD 0.025 OHM 5% 1W 2010; Part Number: CSRN2010JK25L0; Manufacturer: Stackpole Electronics Inc.; TemperatureRange: -55C ~ 155C; TemperatureCoefficient: 250ppm/C; Value: 0.025; PartId: 10142; Supplier 1: Digi-Key; Supplier Part Number 1: CSRN2010JK25L0-ND; ComponentLink1Description: Datasheet; ComponentLink1URL: http://www.seielect.com/catalog/SEI-CSR_CSRN.pdf; ComponentLink2Description: Digi-Key Listing; ComponentLink2URL: https://www.digikey.com/product-detail/en/stackpole-electronics-inc/CSRN2010JK25L0/CSRN2010JK25L0-ND/1742660; Tolerance: 5%; PowerRating: 1W; Price: 0.126; Device Package: 2010 (5025 Metric)
footprint STACKPOLE CSRN2010
pins: 1, 2

## CSRN2010JK50L0
designator R?, comment 0.05
RES SMD 0.05 OHM 5% 1W 2010; Part Number: CSRN2010JK50L0; Manufacturer: Stackpole Electronics Inc.; TemperatureRange: -55C ~ 155C; TemperatureCoefficient: 250ppm/C; Value: 0.05; PartId: 10143; Supplier 1: Digi-Key; Supplier Part Number 1: CSRN2010JK50L0-ND; ComponentLink1Description: Datasheet; ComponentLink1URL: http://www.seielect.com/catalog/SEI-CSR_CSRN.pdf; ComponentLink2Description: Digi-Key Listing; ComponentLink2URL: https://www.digikey.com/product-detail/en/stackpole-electronics-inc/CSRN2010JK50L0/CSRN2010JK50L0-ND/1742668; Tolerance: 5%; PowerRating: 1W; Price: 0.126; Device Package: 2010 (5025 Metric)
footprint STACKPOLE CSRN2010
pins: 1, 2

## CSRN2010JKR100
designator R?, comment 0.1
RES SMD 0.1 OHM 5% 1W 2010; Part Number: CSRN2010JKR100; Manufacturer: Stackpole Electronics Inc.; TemperatureRange: -55C ~ 155C; TemperatureCoefficient: 250ppm/C; Value: 0.1; PartId: 10127; Supplier 1: Digi-Key; Supplier Part Number 1: CSRN2010JKR100-ND; ComponentLink1Description: Datasheet; ComponentLink1URL: http://www.seielect.com/catalog/SEI-CSR_CSRN.pdf; ComponentLink2Description: Digi-Key Listing; ComponentLink2URL: https://www.digikey.com/product-detail/en/stackpole-electronics-inc/CSRN2010JKR100/CSRN2010JKR100-ND/1742676; Tolerance: 5%; PowerRating: 1W; Price: 0.098; Device Package: 2010 (5025 Metric)
footprint STACKPOLE CSRN2010
pins: 1, 2

## CSRN2010JKR150
designator R?, comment 0.15
RES SMD 0.15 OHM 5% 1W 2010; Part Number: CSRN2010JKR150; Manufacturer: Stackpole Electronics Inc.; TemperatureRange: -55C ~ 155C; TemperatureCoefficient: 250ppm/C; Value: 0.15; PartId: 10116; Supplier 1: Digi-Key; Supplier Part Number 1: CSRN2010JKR150-ND; ComponentLink1Description: Datasheet; ComponentLink1URL: http://www.seielect.com/catalog/SEI-CSR_CSRN.pdf; ComponentLink2Description: Digi-Key Listing; ComponentLink2URL: https://www.digikey.com/product-detail/en/stackpole-electronics-inc/CSRN2010JKR150/CSRN2010JKR150-ND/1742679; Tolerance: 5%; PowerRating: 1W; Price: 0.08; Device Package: 2010 (5025 Metric)
footprint STACKPOLE CSRN2010
pins: 1, 2

## CSRN2010JKR200
designator R?, comment 0.2
RES SMD 0.2 OHM 5% 1W 2010; Part Number: CSRN2010JKR200; Manufacturer: Stackpole Electronics Inc.; TemperatureRange: -55C ~ 155C; TemperatureCoefficient: 250ppm/C; Value: 0.2; PartId: 10117; Supplier 1: Digi-Key; Supplier Part Number 1: CSRN2010JKR200-ND; ComponentLink1Description: Datasheet; ComponentLink1URL: http://www.seielect.com/catalog/SEI-CSR_CSRN.pdf; ComponentLink2Description: Digi-Key Listing; ComponentLink2URL: https://www.digikey.com/product-detail/en/stackpole-electronics-inc/CSRN2010JKR200/CSRN2010JKR200-ND/1742684; Tolerance: 5%; PowerRating: 1W; Price: 0.08; Device Package: 2010 (5025 Metric)
footprint STACKPOLE CSRN2010
pins: 1, 2

## CSRN2010JKR300
designator R?, comment 0.3
RES SMD 0.3 OHM 5% 1W 2010; Part Number: CSRN2010JKR300; Manufacturer: Stackpole Electronics Inc.; TemperatureRange: -55C ~ 155C; TemperatureCoefficient: 250ppm/C; Value: 0.3; PartId: 10118; Supplier 1: Digi-Key; Supplier Part Number 1: CSRN2010JKR300-ND; ComponentLink1Description: Datasheet; ComponentLink1URL: http://www.seielect.com/catalog/SEI-CSR_CSRN.pdf; ComponentLink2Description: Digi-Key Listing; ComponentLink2URL: https://www.digikey.com/product-detail/en/stackpole-electronics-inc/CSRN2010JKR300/CSRN2010JKR300-ND/1742692; Tolerance: 5%; PowerRating: 1W; Price: 0.08; Device Package: 2010 (5025 Metric)
footprint STACKPOLE CSRN2010
pins: 1, 2

## CSRN2010JKR430
designator R?, comment 0.43
RES SMD 0.43 OHM 5% 1W 2010; Part Number: CSRN2010JKR430; Manufacturer: Stackpole Electronics Inc.; TemperatureRange: -55C ~ 155C; TemperatureCoefficient: 250ppm/C; Value: 0.43; PartId: 10119; Supplier 1: Digi-Key; Supplier Part Number 1: CSRN2010JKR430-ND; ComponentLink1Description: Datasheet; ComponentLink1URL: http://www.seielect.com/catalog/SEI-CSR_CSRN.pdf; ComponentLink2Description: Digi-Key Listing; ComponentLink2URL: https://www.digikey.com/product-detail/en/stackpole-electronics-inc/CSRN2010JKR430/CSRN2010JKR430-ND/1742699; Tolerance: 5%; PowerRating: 1W; Price: 0.08; Device Package: 2010 (5025 Metric)
footprint STACKPOLE CSRN2010
pins: 1, 2

## CSRN2010JTR150
designator R?, comment 0.15
RES SMD 0.15 OHM 5% 1W 2010; Part Number: CSRN2010JTR150; Manufacturer: Stackpole Electronics Inc.; TemperatureRange: -55C ~ 155C; TemperatureCoefficient: 250ppm/C; Value: 0.15; PartId: 10113; Supplier 1: Digi-Key; Supplier Part Number 1: CSRN2010JTR150-ND; ComponentLink1Description: Datasheet; ComponentLink1URL: http://www.seielect.com/catalog/SEI-CSR_CSRN.pdf; ComponentLink2Description: Digi-Key Listing; ComponentLink2URL: https://www.digikey.com/product-detail/en/stackpole-electronics-inc/CSRN2010JTR150/CSRN2010JTR150-ND/1742680; Tolerance: 5%; PowerRating: 1W; Price: 0.075; Device Package: 2010 (5025 Metric)
footprint STACKPOLE CSRN2010
pins: 1, 2

## CSRN2010JTR300
designator R?, comment 0.3
RES SMD 0.3 OHM 5% 1W 2010; Part Number: CSRN2010JTR300; Manufacturer: Stackpole Electronics Inc.; TemperatureRange: -55C ~ 155C; TemperatureCoefficient: 250ppm/C; Value: 0.3; PartId: 10114; Supplier 1: Digi-Key; Supplier Part Number 1: CSRN2010JTR300-ND; ComponentLink1Description: Datasheet; ComponentLink1URL: http://www.seielect.com/catalog/SEI-CSR_CSRN.pdf; ComponentLink2Description: Digi-Key Listing; ComponentLink2URL: https://www.digikey.com/product-detail/en/stackpole-electronics-inc/CSRN2010JTR300/CSRN2010JTR300-ND/1742693; Tolerance: 5%; PowerRating: 1W; Price: 0.075; Device Package: 2010 (5025 Metric)
footprint STACKPOLE CSRN2010
pins: 1, 2

## CSRN2010JTR470
designator R?, comment 0.47
RES SMD 0.47 OHM 5% 1W 2010; Part Number: CSRN2010JTR470; Manufacturer: Stackpole Electronics Inc.; TemperatureRange: -55C ~ 155C; TemperatureCoefficient: 250ppm/C; Value: 0.47; PartId: 10115; Supplier 1: Digi-Key; Supplier Part Number 1: CSRN2010JTR470-ND; ComponentLink1Description: Datasheet; ComponentLink1URL: http://www.seielect.com/catalog/SEI-CSR_CSRN.pdf; ComponentLink2Description: Digi-Key Listing; ComponentLink2URL: https://www.digikey.com/product-detail/en/stackpole-electronics-inc/CSRN2010JTR470/CSRN2010JTR470-ND/1742701; Tolerance: 5%; PowerRating: 1W; Price: 0.075; Device Package: 2010 (5025 Metric)
footprint STACKPOLE CSRN2010
pins: 1, 2

## CSRN2010JTR820
designator R?, comment 0.82
RES SMD 0.82 OHM 5% 1W 2010; Part Number: CSRN2010JTR820; Manufacturer: Stackpole Electronics Inc.; TemperatureRange: -55C ~ 155C; TemperatureCoefficient: 250ppm/C; Value: 0.82; PartId: 10112; Supplier 1: Digi-Key; Supplier Part Number 1: CSRN2010JTR820-ND; ComponentLink1Description: Datasheet; ComponentLink1URL: http://www.seielect.com/catalog/SEI-CSR_CSRN.pdf; ComponentLink2Description: Digi-Key Listing; ComponentLink2URL: https://www.digikey.com/product-detail/en/stackpole-electronics-inc/CSRN2010JTR820/CSRN2010JTR820-ND/1742708; Tolerance: 5%; PowerRating: 1W; Price: 0.06; Device Package: 2010 (5025 Metric)
footprint STACKPOLE CSRN2010
pins: 1, 2

## CSRN2512FK10L0
designator R?, comment 0.01
RES SMD 0.01 OHM 1% 2W 2512; Part Number: CSRN2512FK10L0; Manufacturer: Stackpole Electronics Inc.; TemperatureRange: -55C ~ 155C; TemperatureCoefficient: 200ppm/C; Value: 0.01; PartId: 10178; Supplier 1: Digi-Key; Supplier Part Number 1: CSRN2512FK10L0TR-ND; ComponentLink1Description: Datasheet; ComponentLink1URL: http://www.seielect.com/catalog/SEI-CSR_CSRN.pdf; ComponentLink2Description: Digi-Key Listing; ComponentLink2URL: https://www.digikey.com/product-detail/en/stackpole-electronics-inc/CSRN2512FK10L0/CSRN2512FK10L0TR-ND/1646104; Tolerance: 1%; PowerRating: 2W; Price: 0.1925; Device Package: 2512 (6432 Metric)
footprint STACKPOLE CSRN2512
pins: 1, 2

## CSRN2512FK15L0
designator R?, comment 0.015
RES SMD 0.015 OHM 1% 2W 2512; Part Number: CSRN2512FK15L0; Manufacturer: Stackpole Electronics Inc.; TemperatureRange: -55C ~ 155C; TemperatureCoefficient: 200ppm/C; Value: 0.015; PartId: 10181; Supplier 1: Digi-Key; Supplier Part Number 1: CSRN2512FK15L0TR-ND; ComponentLink1Description: Datasheet; ComponentLink1URL: http://www.seielect.com/catalog/SEI-CSR_CSRN.pdf; ComponentLink2Description: Digi-Key Listing; ComponentLink2URL: https://www.digikey.com/product-detail/en/stackpole-electronics-inc/CSRN2512FK15L0/CSRN2512FK15L0TR-ND/1742714; Tolerance: 1%; PowerRating: 2W; Price: 0.1925; Device Package: 2512 (6432 Metric)
footprint STACKPOLE CSRN2512
pins: 1, 2

## CSRN2512FK18L0
designator R?, comment 0.018
RES SMD 0.018 OHM 1% 2W 2512; Part Number: CSRN2512FK18L0; Manufacturer: Stackpole Electronics Inc.; TemperatureRange: -55C ~ 155C; TemperatureCoefficient: 200ppm/C; Value: 0.018; PartId: 10237; Supplier 1: Digi-Key; Supplier Part Number 1: CSRN2512FK18L0-ND; ComponentLink1Description: Datasheet; ComponentLink1URL: http://www.seielect.com/catalog/SEI-CSR_CSRN.pdf; ComponentLink2Description: Digi-Key Listing; ComponentLink2URL: https://www.digikey.com/product-detail/en/stackpole-electronics-inc/CSRN2512FK18L0/CSRN2512FK18L0-ND/1742716; Tolerance: 1%; PowerRating: 2W; Price: 0.1925; Device Package: 2512 (6432 Metric)
footprint STACKPOLE CSRN2512
pins: 1, 2

## CSRN2512FK20L0
designator R?, comment 0.02
RES SMD 0.02 OHM 1% 2W 2512; Part Number: CSRN2512FK20L0; Manufacturer: Stackpole Electronics Inc.; TemperatureRange: -55C ~ 155C; TemperatureCoefficient: 200ppm/C; Value: 0.02; PartId: 10176; Supplier 1: Digi-Key; Supplier Part Number 1: CSRN2512FK20L0TR-ND; ComponentLink1Description: Datasheet; ComponentLink1URL: http://www.seielect.com/catalog/SEI-CSR_CSRN.pdf; ComponentLink2Description: Digi-Key Listing; ComponentLink2URL: https://www.digikey.com/product-detail/en/stackpole-electronics-inc/CSRN2512FK20L0/CSRN2512FK20L0TR-ND/1646105; Tolerance: 1%; PowerRating: 2W; Price: 0.1526; Device Package: 2512 (6432 Metric)
footprint STACKPOLE CSRN2512
pins: 1, 2

## CSRN2512FK22L0
designator R?, comment 0.022
RES SMD 0.022 OHM 1% 2W 2512; Part Number: CSRN2512FK22L0; Manufacturer: Stackpole Electronics Inc.; TemperatureRange: -55C ~ 155C; TemperatureCoefficient: 200ppm/C; Value: 0.022; PartId: 10231; Supplier 1: Digi-Key; Supplier Part Number 1: CSRN2512FK22L0-ND; ComponentLink1Description: Datasheet; ComponentLink1URL: http://www.seielect.com/catalog/SEI-CSR_CSRN.pdf; ComponentLink2Description: Digi-Key Listing; ComponentLink2URL: https://www.digikey.com/product-detail/en/stackpole-electronics-inc/CSRN2512FK22L0/CSRN2512FK22L0-ND/1742721; Tolerance: 1%; PowerRating: 2W; Price: 0.1526; Device Package: 2512 (6432 Metric)
footprint STACKPOLE CSRN2512
pins: 1, 2

## CSRN2512FK25L0
designator R?, comment 0.025
RES SMD 0.025 OHM 1% 2W 2512; Part Number: CSRN2512FK25L0; Manufacturer: Stackpole Electronics Inc.; TemperatureRange: -55C ~ 155C; TemperatureCoefficient: 200ppm/C; Value: 0.025; PartId: 10175; Supplier 1: Digi-Key; Supplier Part Number 1: CSRN2512FK25L0TR-ND; ComponentLink1Description: Datasheet; ComponentLink1URL: http://www.seielect.com/catalog/SEI-CSR_CSRN.pdf; ComponentLink2Description: Digi-Key Listing; ComponentLink2URL: https://www.digikey.com/product-detail/en/stackpole-electronics-inc/CSRN2512FK25L0/CSRN2512FK25L0TR-ND/1646106; Tolerance: 1%; PowerRating: 2W; Price: 0.1526; Device Package: 2512 (6432 Metric)
footprint STACKPOLE CSRN2512
pins: 1, 2

## CSRN2512FK30L0
designator R?, comment 0.03
RES SMD 0.03 OHM 1% 2W 2512; Part Number: CSRN2512FK30L0; Manufacturer: Stackpole Electronics Inc.; TemperatureRange: -55C ~ 155C; TemperatureCoefficient: 200ppm/C; Value: 0.03; PartId: 10174; Supplier 1: Digi-Key; Supplier Part Number 1: CSRN2512FK30L0TR-ND; ComponentLink1Description: Datasheet; ComponentLink1URL: http://www.seielect.com/catalog/SEI-CSR_CSRN.pdf; ComponentLink2Description: Digi-Key Listing; ComponentLink2URL: https://www.digikey.com/product-detail/en/stackpole-electronics-inc/CSRN2512FK30L0/CSRN2512FK30L0TR-ND/1646107; Tolerance: 1%; PowerRating: 2W; Price: 0.1526; Device Package: 2512 (6432 Metric)
footprint STACKPOLE CSRN2512
pins: 1, 2

## CSRN2512FK33L0
designator R?, comment 0.033
RES SMD 0.033 OHM 1% 2W 2512; Part Number: CSRN2512FK33L0; Manufacturer: Stackpole Electronics Inc.; TemperatureRange: -55C ~ 155C; TemperatureCoefficient: 200ppm/C; Value: 0.033; PartId: 10232; Supplier 1: Digi-Key; Supplier Part Number 1: CSRN2512FK33L0-ND; ComponentLink1Description: Datasheet; ComponentLink1URL: http://www.seielect.com/catalog/SEI-CSR_CSRN.pdf; ComponentLink2Description: Digi-Key Listing; ComponentLink2URL: https://www.digikey.com/product-detail/en/stackpole-electronics-inc/CSRN2512FK33L0/CSRN2512FK33L0-ND/1742724; Tolerance: 1%; PowerRating: 2W; Price: 0.1526; Device Package: 2512 (6432 Metric)
footprint STACKPOLE CSRN2512
pins: 1, 2

## CSRN2512FK40L0
designator R?, comment 0.04
RES SMD 0.04 OHM 1% 2W 2512; Part Number: CSRN2512FK40L0; Manufacturer: Stackpole Electronics Inc.; TemperatureRange: -55C ~ 155C; TemperatureCoefficient: 200ppm/C; Value: 0.04; PartId: 10177; Supplier 1: Digi-Key; Supplier Part Number 1: CSRN2512FK40L0TR-ND; ComponentLink1Description: Datasheet; ComponentLink1URL: http://www.seielect.com/catalog/SEI-CSR_CSRN.pdf; ComponentLink2Description: Digi-Key Listing; ComponentLink2URL: https://www.digikey.com/product-detail/en/stackpole-electronics-inc/CSRN2512FK40L0/CSRN2512FK40L0TR-ND/1788108; Tolerance: 1%; PowerRating: 2W; Price: 0.1526; Device Package: 2512 (6432 Metric)
footprint STACKPOLE CSRN2512
pins: 1, 2

## CSRN2512FK47L0
designator R?, comment 0.047
RES SMD 0.047 OHM 1% 2W 2512; Part Number: CSRN2512FK47L0; Manufacturer: Stackpole Electronics Inc.; TemperatureRange: -55C ~ 155C; TemperatureCoefficient: 200ppm/C; Value: 0.047; PartId: 10233; Supplier 1: Digi-Key; Supplier Part Number 1: CSRN2512FK47L0-ND; ComponentLink1Description: Datasheet; ComponentLink1URL: http://www.seielect.com/catalog/SEI-CSR_CSRN.pdf; ComponentLink2Description: Digi-Key Listing; ComponentLink2URL: https://www.digikey.com/product-detail/en/stackpole-electronics-inc/CSRN2512FK47L0/CSRN2512FK47L0-ND/1742731; Tolerance: 1%; PowerRating: 2W; Price: 0.1526; Device Package: 2512 (6432 Metric)
footprint STACKPOLE CSRN2512
pins: 1, 2